# Altium footprint library 虚拟离子电流.PcbLib: 8 footprints
Each footprint in its own frame and in the unit in brackets; x right, y up, seen from the top. Pads: shape width x height; smd on the part's side, far side on the other; paste and mask are expansions set on the pad; w line width, h text height; cw(c..) or ccw(c..) is an arc to the next point about the centre after c.
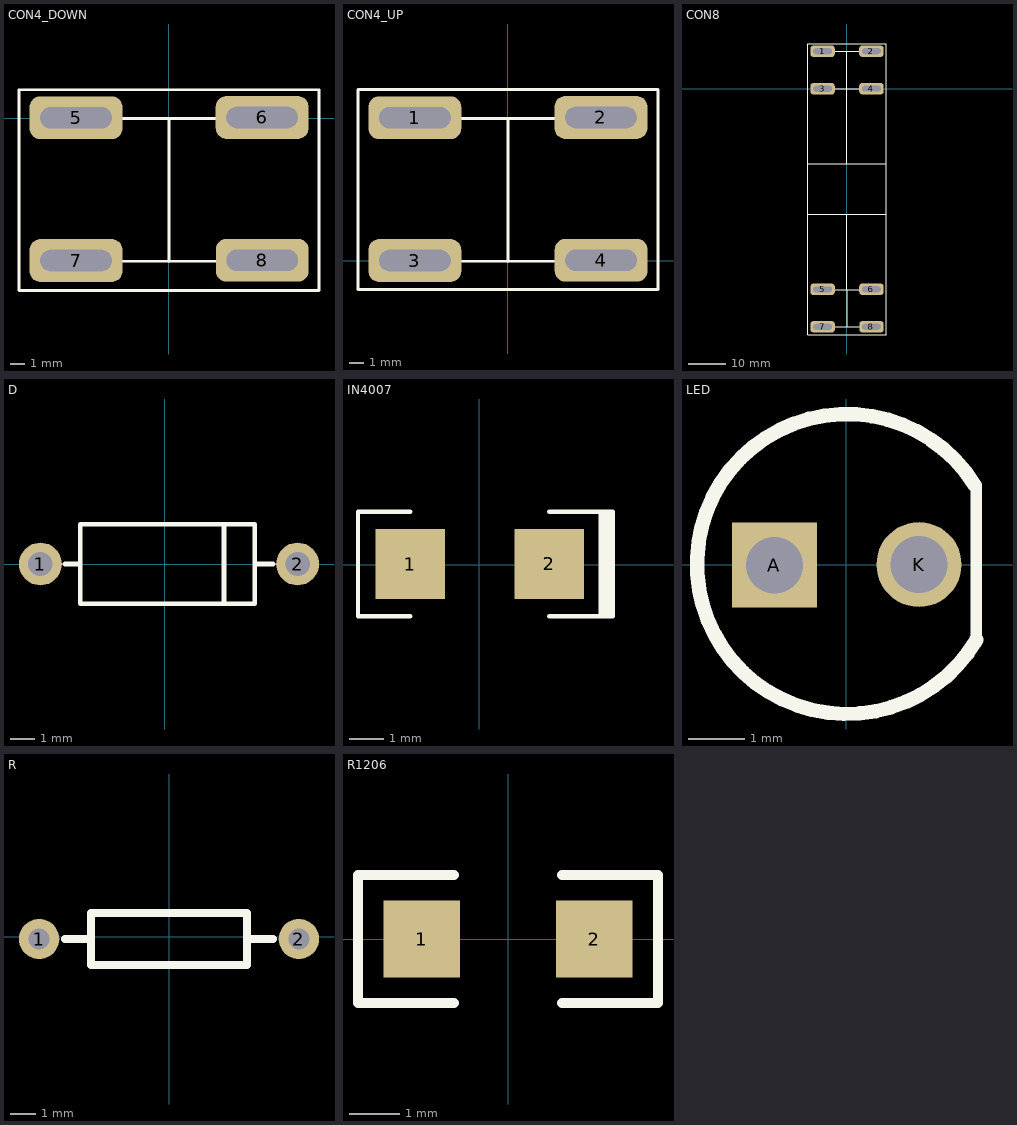
[diagram p0: the footprints below, top view; thin cyan lines are the x and y axes]

## CON4_DOWN [mm]
pads (4):
  rrect50% 6.5x3 hole 1.5 slot 5 at 0 deg: 5(-6.5,0.04) 6(6.52,0.06) 7(-6.5,-9.95) 8(6.53,-9.93)
Top Overlay:
  lines w0.2: -4.01,-10 3.99,-10 ; -3.99,-0.01 4.01,-0.01 ; 0.01,-10.01 0.01,-0.01 ; -10.49,-12.05 10.5,-12.05 10.5,2 -10.49,2 -10.49,-12.05

## CON4_UP [mm]
pads (4):
  rrect50% 6.5x3 hole 1.5 slot 5 at 0 deg: 1(-6.51,10.02) 2(6.51,10.04) 3(-6.51,0.03) 4(6.52,0.05)
Top Overlay:
  lines w0.2: -4.02,-0.02 3.98,-0.02 ; -4,9.97 4,9.97 ; 0,-0.03 0,9.97 ; -10.49,-1.99 10.5,-1.99 10.5,11.99 -10.49,11.99 -10.49,-1.99

## CON8 [mm]
pads (8):
  rrect50% 6.5x3 hole 1.5 slot 5 at 0 deg: 1(-6.51,10.03) 2(6.51,10.05) 3(-6.51,0.04) 4(6.52,0.06) 5(-6.5,-53.43) 6(6.52,-53.41) 7(-6.5,-63.42) 8(6.53,-63.4)
Top Overlay:
  lines w0.1: -10.49,-65.52 10.5,-65.52 ; -10.49,12 10.5,12
  lines w0.2: -10.49,-65.52 -10.49,12 ; -10.49,-33.48 10.5,-33.48 ; -10.49,-19.97 10.5,-19.97 ; -4.02,-0.01 3.98,-0.01 ; -4.01,-63.47 3.99,-63.47 ; -4,9.98 4,9.98 ; -3.99,-53.48 4.01,-53.48 ; 0,-53.48 0,-33.48 ; 0,-19.97 0,0 ; 0,-0.02 0,9.98 ; 0.01,-63.48 0.01,-53.48 ; 10.5,-65.52 10.5,12

## D [mil]
pads (2):
  round 70 hole 40: 1(-203.24,0.54) 2(216.76,0.54)
Top Overlay:
  lines w8: -163.24,0.54 -138.24,0.54 ; 96.76,-64.46 96.76,65.54 ; 146.76,0.54 176.76,0.54 ; -138.24,-64.46 -138.24,65.54 146.76,65.54 146.76,-64.46 -138.24,-64.46

## IN4007 [mil]
pads (2):
  rect 80x80 smd: 1(-79.33,0.92) 2(80.67,0.92)
Top Overlay:
  region: 155.65,-58.08 155.65,60.92 137.19,60.92 137.19,-58.08
  lines w5: -79.33,-59.08 -139.33,-59.08 -139.33,60.92 -79.33,60.92 ; 80.67,-59.08 120.67,-59.08 153.67,-59.08 153.67,60.92 120.67,60.92 80.67,60.92

## LED [mm]
pads (2):
  rect 1.5x1.5 hole 1: A(-1.27,-0.01)
  round 1.5 hole 1: K(1.28,0)
Top Overlay:
  lines w0.2: 2.259,1.404 2.292,1.404 2.292,-1.329
  lines w0.254: 2.259,1.404 ccw(c0.01,0.01) 2.292,-1.329

## R [mil]
pads (2):
  round 62 hole 32: 1(-200.35,-3.31) 2(199.65,-3.31)
Top Overlay:
  lines w12: -160.35,-3.31 -120.35,-3.31 ; 119.65,-3.31 159.65,-3.31 ; -120.35,-43.31 -120.35,36.69 119.65,36.69 119.65,-43.31 -120.35,-43.31

## R1206 [mil]
pads (2):
  rect 60x60 smd: 1(-67.72,0) 2(67.28,0)
Top Overlay:
  lines w7.87: -42.72,-50 -117.72,-50 -117.72,50 -42.72,50 ; 42.28,-50 117.28,-50 117.28,50 42.28,50